# EAGLE library part FPC_XF2M-3015-1A (library LITTLEBITS140915)
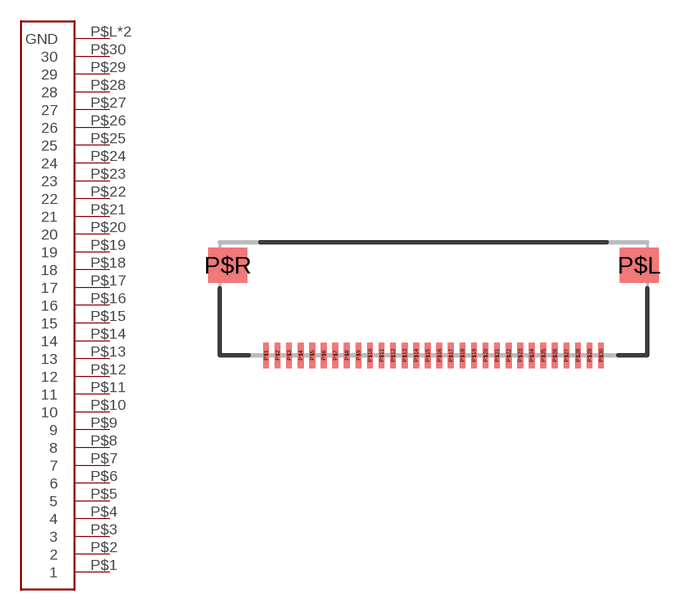
[diagram p81: symbol with the pads of XF2M-3015-1A; footprint XF2M-3015-1A]

Designator prefix -

## FPC_XF2M-3015-1A  [XF2M-3015-1A]
P$1  1
P$2  2
P$3  3
P$4  4
P$5  5
P$6  6
P$7  7
P$8  8
P$9  9
P$10  10
P$11  11
P$12  12
P$13  13
P$14  14
P$15  15
P$16  16
P$17  17
P$18  18
P$19  19
P$20  20
P$21  21
P$22  22
P$23  23
P$24  24
P$25  25
P$26  26
P$27  27
P$28  28
P$29  29
P$30  30
P$L  GND
P$R  GND

## Footprint XF2M-3015-1A (pad centres in mm)
smd 0.25 x 1.1: P$1 -7.25,-2.63; P$2 -6.75,-2.63; P$3 -6.25,-2.63; P$4 -5.75,-2.63; P$5 -5.25,-2.63; P$6 -4.75,-2.63; P$7 -4.25,-2.63; P$8 -3.75,-2.63; P$9 -3.25,-2.63; P$10 -2.75,-2.63; P$11 -2.25,-2.63; P$12 -1.75,-2.63; P$13 -1.25,-2.63; P$14 -0.75,-2.63; P$15 -0.25,-2.63; P$16 0.25,-2.63; P$17 0.75,-2.63; P$18 1.25,-2.63; P$19 1.75,-2.63; P$20 2.25,-2.63; P$21 2.75,-2.63; P$22 3.25,-2.63; P$23 3.75,-2.63; P$24 4.25,-2.63; P$25 4.75,-2.63; P$26 5.25,-2.63; P$27 5.75,-2.63; P$28 6.25,-2.63; P$29 6.75,-2.63; P$30 7.25,-2.63
smd 1.7 x 1.5: P$L 8.9,1.27; P$R -8.9,1.27